# Altium footprint library miniusb.PcbLib: 1 footprints
Each footprint in its own frame and in the unit in brackets; x right, y up, seen from the top. Pads: shape width x height; smd on the part's side, far side on the other; paste and mask are expansions set on the pad; w line width, h text height; cw(c..) or ccw(c..) is an arc to the next point about the centre after c.
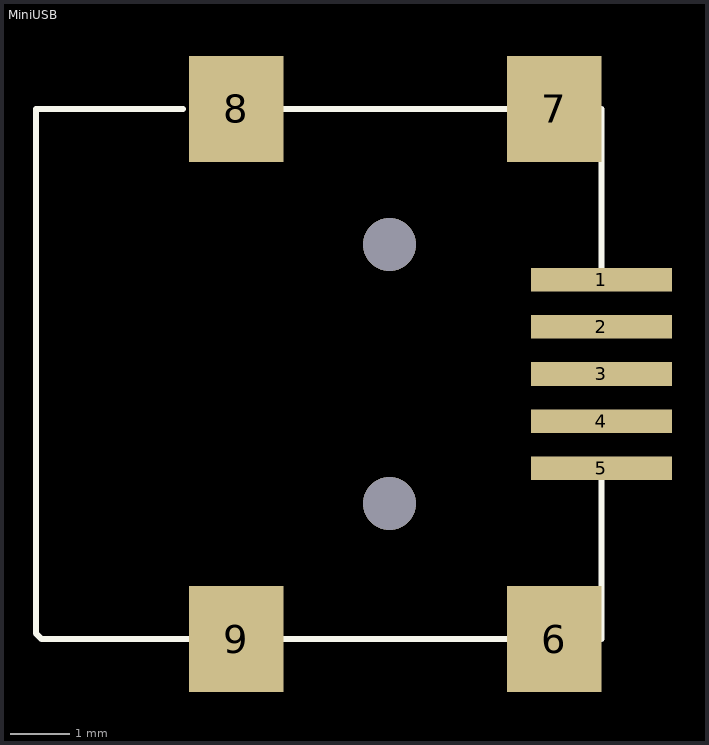
[diagram p0: the footprint, top view; thin cyan lines are the x and y axes]

## MiniUSB [mm]
pads (9):
  rect 2.4x0.4 smd: 1(-430.554,-752.069) 2(-430.554,-752.869) 3(-430.554,-753.669) 4(-430.554,-754.469) 5(-430.554,-755.269)
  rect 1.6x1.8 smd: 6(-431.354,-758.169) 7(-431.354,-749.169) 8(-436.754,-749.169) 9(-436.754,-758.169)
via -434.154,-751.469 diameter 0.9 hole 0.9
via -434.154,-755.869 diameter 0.9 hole 0.9
Top Overlay:
  lines w0.1: -437.654,-749.169 -440.154,-749.169 -440.154,-758.069 -440.054,-758.169 -437.554,-758.169 ; -435.954,-758.169 -432.154,-758.169 ; -435.954,-749.169 -432.154,-749.169 ; -430.554,-758.169 -430.554,-755.469 ; -430.554,-751.869 -430.554,-749.169